# Altium schematic symbol library Controller.SchLib: 12 symbols
Pins are listed as number, name and electrical type; pins without a type are passive.

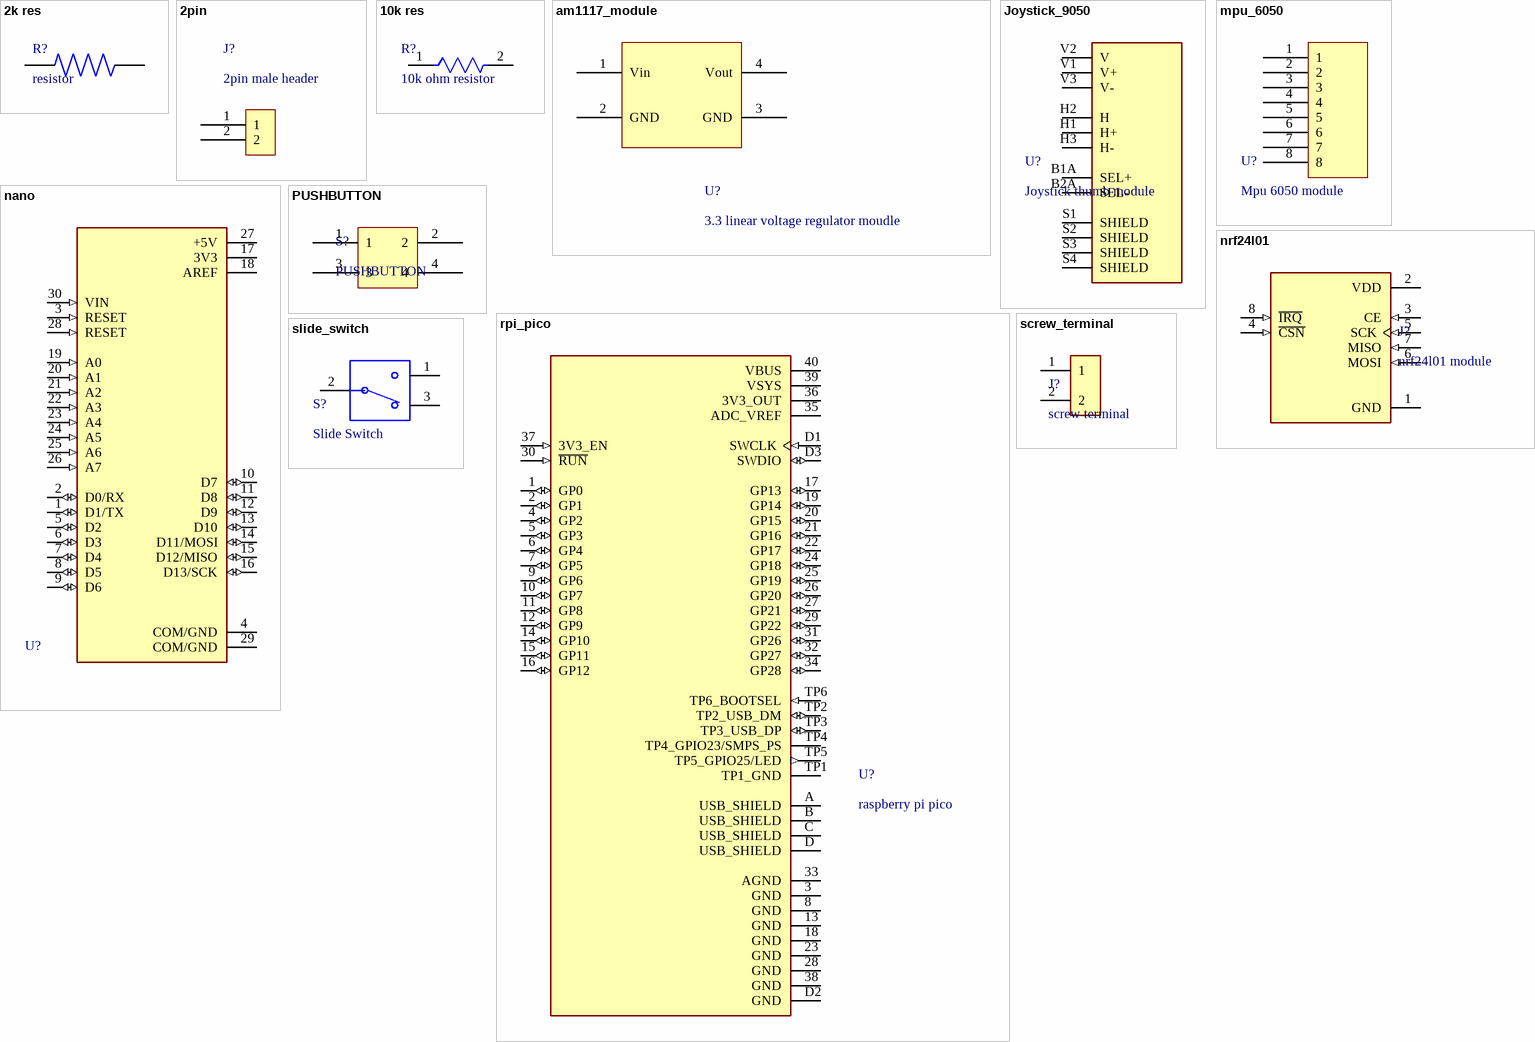
[diagram p0: symbols 2k res to slide_switch]

## 2k res
designator R?, comment resistor
footprint 2k res
pins: 1, 2

## 2pin
designator J?, comment 2pin male header
footprint 2pin
pins: 1, 2

## 10k res
designator R?, comment 10k ohm resistor
footprint 10k res (10k ohm resistor)
pins: 1, 2

## am1117_module
designator U?, comment 3.3 linear voltage regulator moudle
footprint ams1117_module
pins: 1 Vin, 2 GND, 3 GND, 4 Vout

## Joystick_9050
designator U?, comment Joystick thumb module
footprint Joystick_9050 (Joystick encoder)
pins: B1A SEL+, B2A SEL-, H1 H+, H2 H, H3 H-, S1 SHIELD, S2 SHIELD, S3 SHIELD, S4 SHIELD, V1 V+, V2 V, V3 V-

## mpu_6050
designator U?, comment Mpu 6050 module
footprint MPU_6050
pins: 1, 2, 3, 4, 5, 6, 7, 8

## nano
designator U?
footprint nano
pins: 1 D1/TX (io), 2 D0/RX (io), 3 RESET (in), 4 COM/GND (power), 5 D2 (io), 6 D3 (io), 7 D4 (io), 8 D5 (io), 9 D6 (io), 10 D7 (io), 11 D8 (io), 12 D9 (io), 13 D10 (io), 14 D11/MOSI (io), 15 D12/MISO (io), 16 D13/SCK (io), 17 3V3 (power), 18 AREF (power), 19 A0 (in), 20 A1 (in), 21 A2 (in), 22 A3 (in), 23 A4 (in), 24 A5 (in), 25 A6 (in), 26 A7 (in), 27 +5V (power), 28 RESET (in), 29 COM/GND (power), 30 VIN (in)

## nrf24l01
designator J?, comment nrf24l01 module
footprint NRF24L01_1
pins: 1 GND (power), 2 VDD (power), 3 CE (in), 4 ~{CSN} (in), 5 SCK (in), 6 MOSI (in), 7 MISO (in), 8 ~{IRQ} (in)

## PUSHBUTTON
designator S?
footprint pushbutton
pins: 1, 2, 3, 4

## rpi_pico
designator U?, comment raspberry pi pico
footprint rpi_pico (raspberry pi pico)
pins: 1 GP0 (io), 2 GP1 (io), 3 GND (power), 4 GP2 (io), 5 GP3 (io), 6 GP4 (io), 7 GP5 (io), 8 GND (power), 9 GP6 (io), 10 GP7 (io), 11 GP8 (io), 12 GP9 (io), 13 GND (power), 14 GP10 (io), 15 GP11 (io), 16 GP12 (io), 17 GP13 (io), 18 GND (power), 19 GP14 (io), 20 GP15 (io), 21 GP16 (io), 22 GP17 (io), 23 GND (power), 24 GP18 (io), 25 GP19 (io), 26 GP20 (io), 27 GP21 (io), 28 GND (power), 29 GP22 (io), 30 ~{RUN} (in), 31 GP26 (io), 32 GP27 (io), 33 AGND (power), 34 GP28 (io), 35 ADC_VREF (power), 36 3V3_OUT (power), 37 3V3_EN (in), 38 GND (power), 39 VSYS (power), 40 VBUS (power), A USB_SHIELD (power), B USB_SHIELD (power), C USB_SHIELD (power), D USB_SHIELD (power), D1 SWCLK (in), D2 GND (power), D3 SWDIO (io), TP1 TP1_GND (power), TP2 TP2_USB_DM (io), TP3 TP3_USB_DP (io), TP4 TP4_GPIO23/SMPS_PS, TP5 TP5_GPIO25/LED (out), TP6 TP6_BOOTSEL (in)

## screw_terminal
designator J?, comment screw terminal
footprint screw_trerminal
pins: 1, 2

## slide_switch
designator S?, comment Slide Switch
footprint slide_switch
pins: 1, 2, 3